# Altium schematic symbol library BUZZ_SH_L.SchLib: 1 symbol
Pins are listed as number, name and electrical type; pins without a type are passive.

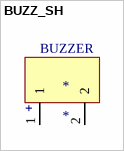
[diagram p0: symbol BUZZ_SH]

## BUZZ_SH
designator *
footprint BUZZ
pins: 1, 2
text: BUZZER; +